# Altium schematic symbol library LR7843HS.SCHLIB: 25 symbols
Pins are listed as number, name and electrical type; pins without a type are passive.

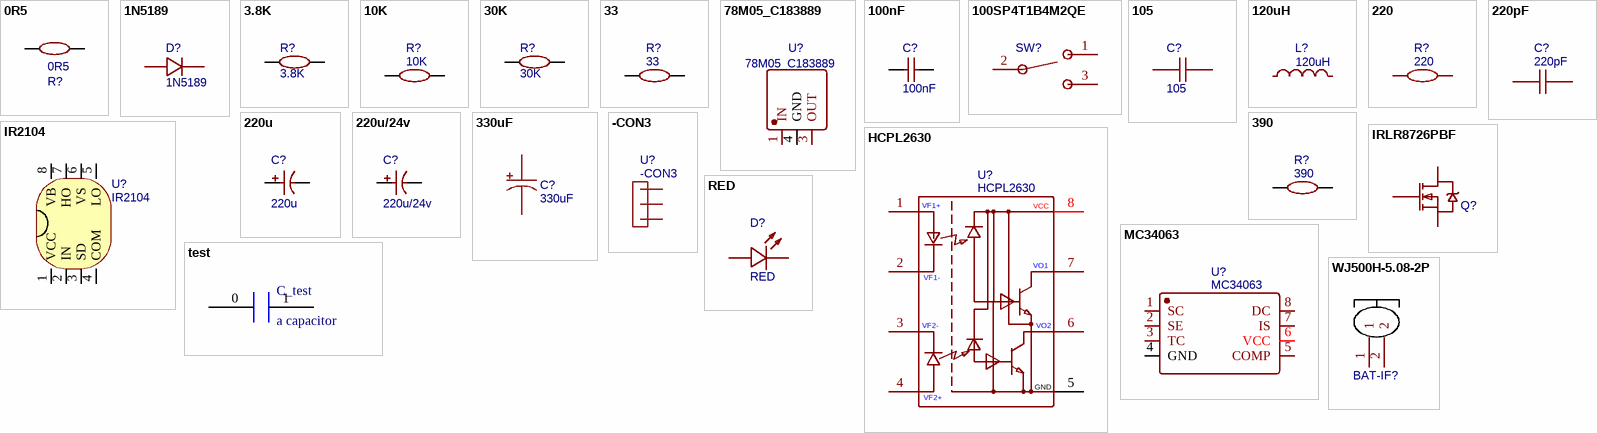
[diagram p0: symbols 0R5 to WJ500H-5.08-2P]

## 0R5
designator R?
BOM_Manufacturer: UniOhm; BOM_Manufacturer Part: 0805W8F500LT5E; nameAlias: Resistance (Ohms); SMT Type: Extend; BOM_Supplier: LCSC; BOM_Supplier Part: C28319; BOM_LCSC Assembly: Yes; spicePre: R; spiceSymbolName: 0805W8F500LT5E
footprint 0805
pins: 1, 2

## 1N5189
designator D?
BOM_Manufacturer: DIOFIT; BOM_Manufacturer Part: SS14; Contributor: LCSC; SMT Type: Extend; BOM_Supplier Part: C169156; BOM_Supplier: LCSC; BOM_LCSC Assembly: Yes; spicePre: D
footprint SMA(DO-214AC)
pins: 1, 2

## 3.8K
designator R?
BOM_Manufacturer: UniOhm; BOM_Manufacturer Part: 0805W8F3831T5E; nameAlias: Resistance (Ohms); SMT Type: Extend; BOM_Supplier: LCSC; BOM_Supplier Part: C27536; BOM_LCSC Assembly: Yes; spicePre: R; spiceSymbolName: 0805W8F3831T5E
footprint 0805
pins: 1, 2

## 10K
designator R?
BOM_Manufacturer: YAGEO; BOM_Manufacturer Part: RT0805BRD071KL; nameAlias: Resistance (Ohms); BOM_Supplier: LCSC; BOM_Supplier Part: C110774; spicePre: R; spiceSymbolName: RT0805BRD071KL
footprint 0805
pins: 1, 2

## 30K
designator R?
BOM_Manufacturer: UniOhm; BOM_Manufacturer Part: 0805W8F3831T5E; nameAlias: Resistance (Ohms); SMT Type: Extend; BOM_Supplier: LCSC; BOM_Supplier Part: C27536; BOM_LCSC Assembly: Yes; spicePre: R; spiceSymbolName: 0805W8F3831T5E
footprint 0805
pins: 1, 2

## 33
designator R?
BOM_Manufacturer: RALEC; BOM_Manufacturer Part: RTT0533R0FTP; nameAlias: Resistance (Ohms); BOM_Supplier: LCSC; BOM_Supplier Part: C104242; spicePre: R; spiceSymbolName: RTT0533R0FTP
footprint 0805
pins: 1, 2

## 78M05_C183889
designator U?
BOM_Manufacturer: Guangdong Hottech; BOM_Manufacturer Part: 78M05; Contributor: LCSC; SMT Type: Extend; BOM_Supplier: LCSC; BOM_Supplier Part: C183889; BOM_LCSC Assembly: Yes; spicePre: U
footprint TO-252-2
pins: 1 IN, 3 OUT, 4 GND

## 100nF
designator C?
BOM_Manufacturer: SAMSUNG; BOM_Manufacturer Part: CL21F104ZBANNNC; nameAlias: Capacitance; Contributor: LCSC; BOM_Supplier: LCSC; BOM_Supplier Part: C84714; spicePre: C; spiceSymbolName: CL21F104ZBANNNC
footprint 0805
pins: 1, 2

## 100SP4T1B4M2QE
designator SW?  (value not drawn)
BOM_Manufacturer: E-Switch; Contributor: LCSC; BOM_Supplier: LCSC; BOM_Supplier Part: C273358; BOM_Manufacturer Part: 100SP4T1B4M2QE; spicePre: S
footprint SW-3P-SIP-12.7X6.86-H28.19
pins: 1, 2, 3

## 105
designator C?
BOM_Manufacturer: FH; BOM_Manufacturer Part: 0805B103K101NT; nameAlias: Capacitance; Contributor: LCSC; BOM_Supplier: LCSC; BOM_Supplier Part: C128805; spicePre: C; spiceSymbolName: 0805B103K101NT
footprint 0805
pins: 1, 2

## 120uH
designator L?
BOM_Manufacturer Part: CMI322513J101MT; BOM_Manufacturer: FH; nameAlias: Inductance; SMT Type: Extend; BOM_Supplier: LCSC; BOM_Supplier Part: C27775; BOM_LCSC Assembly: Yes; spicePre: L; spiceSymbolName: CMI322513J101MT
footprint 1210
pins: 1, 2

## 220
designator R?
BOM_Manufacturer: YAGEO; BOM_Manufacturer Part: RC0805JR-7W220RL; nameAlias: Resistance (Ohms); Contributor: LCSC; BOM_Supplier: LCSC; BOM_Supplier Part: C163392; spicePre: R; spiceSymbolName: RC0805JR-7W220RL
footprint 0805
pins: 1, 2

## 220pF
designator C?
BOM_Manufacturer: KEMET; BOM_Manufacturer Part: C0805C221J1GAC7800; nameAlias: Capacitance; Contributor: LCSC; BOM_Supplier: LCSC; BOM_Supplier Part: C140994; spicePre: C; spiceSymbolName: C0805C221J1GAC7800
footprint 0805
pins: 1, 2

## 220u
designator C?
BOM_Manufacturer: SAMWHA; BOM_Manufacturer Part: RD1H227M1012MPA; nameAlias: Capacitance; Contributor: LCSC; BOM_Supplier: LCSC; BOM_Supplier Part: C160626; spicePre: C; spiceSymbolName: RD1H227M1012MPA
footprint CAP-D6.3XF2.5
pins: 1, 2

## 220u/24v
designator C?
BOM_Manufacturer: SAMWHA; BOM_Manufacturer Part: RD1H227M1012MPA; nameAlias: Capacitance; Contributor: LCSC; BOM_Supplier: LCSC; BOM_Supplier Part: C160626; spicePre: C; spiceSymbolName: RD1H227M1012MPA
footprint CAP-D6.3XF2.5
pins: 1, 2

## 330uF
designator C?
BOM_Manufacturer: Lelon; BOM_Manufacturer Part: RZW331M1EBK-0811; nameAlias: Capacitance; Contributor: LCSC; BOM_Supplier: LCSC; BOM_Supplier Part: C335054; spicePre: C; spiceSymbolName: RZW331M1EBK-0811
footprint CAP-D6.3XF2.5
pins: 1, 2

## 390
designator R?
BOM_Manufacturer: RALEC; BOM_Manufacturer Part: RTT05391JTP; nameAlias: Resistance (Ohms); BOM_Supplier: LCSC; BOM_Supplier Part: C104284; spicePre: R; spiceSymbolName: RTT05391JTP
footprint 0805
pins: 1, 2

## -CON3
designator U?
spicePre: U
footprint CON3
pins: P$1 1, P$2 2, P$3 3

## HCPL2630
designator U?
BOM_Manufacturer: FAIRCHILD; BOM_Supplier: LCSC; BOM_Manufacturer Part: HCPL2630; image: //image.lceda.cn/szlcsc/C36886.jpg; BOM_Supplier Part: C36886; spicePre: U
footprint DIP-8_LS7.62-L9.78-W6.60-PITCH2.54
pins: 1 VF1+, 2 VF1-, 3 VF2-, 4 VF2+, 5 GND, 6 VO2, 7 VO1, 8 VCC

## IR2104
designator U?
Contributor: peanutsjn; Package Display: No; BOM_Manufacturer Part: ?; spicePre: U
footprint IR2104
pins: 1 VCC, 2 IN, 3 SD, 4 COM, 5 LO, 6 VS, 7 HO, 8 VB

## IRLR8726PBF
designator Q?  (value not drawn)
BOM_Manufacturer: Infineon; BOM_Supplier: LCSC; BOM_Manufacturer Part: IRLR8726PBF; BOM_Supplier Part: C110317; spicePre: Q
footprint TO-252-2(DPAK)
pins: 1 G, 2 D, 3 S

## MC34063
designator U?
BOM_Manufacturer: FM; BOM_Supplier: LCSC; BOM_Manufacturer Part: MC34063; BOM_Supplier Part: C88084; spicePre: U
footprint SOP-8
pins: 1 SC, 2 SE, 3 TC, 4 GND, 5 COMP, 6 VCC, 7 IS, 8 DC

## RED
designator D?
BOM_Manufacturer: Everlight Elec; BOM_Manufacturer Part: 17-21VRD/TR8; Contributor: LCSC; BOM_Supplier: LCSC; BOM_Supplier Part: C264415; spicePre: L
footprint LED-0805
pins: 1 A, 2 K

## test
designator C_test, comment a capacitor
pins: 0, 1

## WJ500H-5.08-2P
designator BAT-IF?  (value not drawn)
BOM_Manufacturer: ReliaPro; BOM_Supplier: LCSC; BOM_Manufacturer Part: WJ500H-5.08-2P; image: //image.lceda.cn/szlcsc/C8478.jpg; BOM_Supplier Part: C8478; spicePre: P
pins: 1, 2